# Altium schematic symbol library D_IC.SchLib: 5 symbols
Pins are listed as number, name and electrical type; pins without a type are passive.

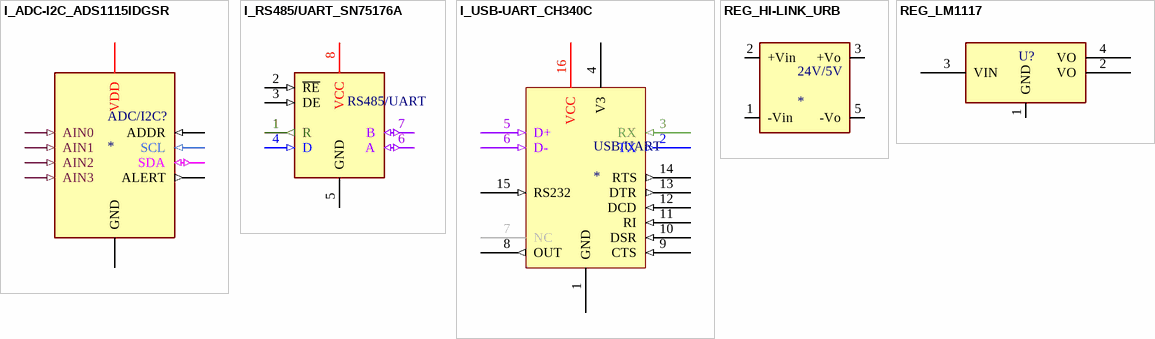
[diagram p0: symbols I_ADC-I2C_ADS1115IDGSR to REG_LM1117]

## I_ADC-I2C_ADS1115IDGSR
designator ADC/I2C?
MANUFACTURER: *; MANUFACTURER CODE: *; PROVIDER: *; PROVIDER CODE: *; ComponentLink1Description: PROVIDER LINK; ComponentLink1URL: *; ComponentLink2Description: DATASHEET; ComponentLink2URL: *
footprint VSSOP-10_ADS1115IDGSR
pins: 1 ADDR (in), 2 ALERT (out), 3 GND (power), 4 AIN0 (in), 5 AIN1 (in), 6 AIN2 (in), 7 AIN3 (in), 8 VDD (power), 9 SDA (io), 10 SCL (in)

## I_RS485/UART_SN75176A
designator RS485/UART  (value not drawn)
Transeiver RS485/UART+; MANUFACTURER: *; ComponentLink1Description: DATASHEET; ComponentLink1URL: *; MANUFACTURER CODE: *; PROVIDER: *; PROVIDER CODE: *; ComponentLink2Description: PROVIDER LINK; ComponentLink2URL: *
footprint SOIC-8
pins: 1 R (out), 2 ~{RE} (in), 3 DE (in), 4 D (in), 5 GND (power), 6 A (io), 7 B (io), 8 VCC (power)

## I_USB-UART_CH340C
designator USB/UART
MANUFACTURER: *; MANUFACTURER CODE: *; PROVIDER: *; PROVIDER CODE: *; ComponentLink1Description: PROVIDER LINK; ComponentLink1URL: *; ComponentLink2Description: DATASHEET; ComponentLink2URL: *
footprint SOP127P-16N
pins: 1 GND (power), 2 TX (out), 3 RX (in), 4 V3 (power), 5 D+ (in), 6 D- (in), 7 NC, 8 OUT (out), 9 CTS (in), 10 DSR (in), 11 RI (in), 12 DCD (in), 13 DTR (out), 14 RTS (out), 15 RS232 (in), 16 VCC

## REG_HI-LINK_URB
designator 24V/5V
ComponentLink1Description: PROVIDER_LINK; ComponentLink1URL: *; MANUFACTURER: *; MANUFACTURER CODE: *; PROVIDER: *; PROVIDER CODE: *; ComponentLink2Description: DATASHEET; ComponentLink2URL: *
footprint PLUGIN_1PULG (THT PARA HI LINK DE 1 PULGADA)
pins: 1 -Vin, 2 +Vin, 3 +Vo, 5 -Vo

## REG_LM1117
designator U?  (value not drawn)
MANUFACTURER: *; MANUFACTURER CODE: *; PROVIDER: *; PROVIDER CODE: *; ComponentLink1Description: PROVIDER LINK; ComponentLink1URL: *; ComponentLink2Description: DATASHEET; ComponentLink2URL: *
footprint SOT-223_LM1117IMPX-3.3/NOPB (SOT-223 Pitch 2.3 mm)
pins: 1 GND, 2 VO, 3 VIN, 4 VO